# EAGLE library part AE-USB2.0-TYPE-C (library akizuki)
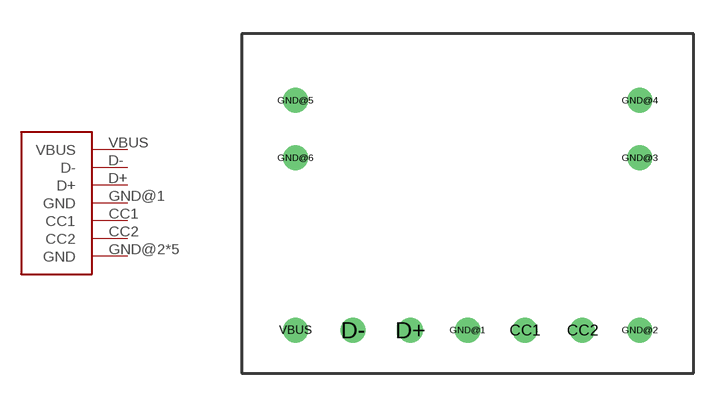
[diagram p2: symbol with the pads of AE-USB2.0-TYPE-C; footprint AE-USB2.0-TYPE-C]

Designator prefix -

## AE-USB2.0-TYPE-C  [AE-USB2.0-TYPE-C]
CC1  CC1
CC2  CC2
D+  D+
D-  D-
GND@1  GND
GND@2  GND
GND@3  GND
GND@4  GND
GND@5  GND
GND@6  GND
VBUS  VBUS

## Footprint AE-USB2.0-TYPE-C (pad centres in mm)
drill 0.6: CC1 10.16,0; CC2 12.7,0; D+ 5.08,0; D- 2.54,0; GND@1 7.62,0; GND@2 15.24,0; GND@3 15.24,7.62; GND@4 15.24,10.16; GND@5 0,10.16; GND@6 0,7.62; VBUS 0,0